# Altium schematic symbol library 2929SQ-501GEC.SchLib: 1 symbol
Pins are listed as number, name and electrical type; pins without a type are passive.

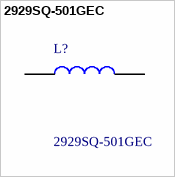
[diagram p0: symbol 2929SQ-501GEC]

## 2929SQ-501GEC
designator L?
Fixed Inductors 2929 500nH Unshld 2% 4.3A 16.5mOhms; Manufacturer_Name: COILCRAFT; Geometry.Height: 7.494mm; Mouser Part Number: 994-2929SQ-501GEC; Mouser Price/Stock: https://www.mouser.co.uk/ProductDetail/Coilcraft/2929SQ-501GEC?qs=zCSbvcPd3pZVsQHAXUuBTA%3D%3D; Manufacturer_Part_Number: 2929SQ-501GEC; Datasheet Link: https://componentsearchengine.com/Datasheets/2/2929SQ-501GEC.pdf
footprint 2929SQ501GEC
pins: 1, 2